# Altium schematic symbol library crystal oscillators.SchLib: 2 symbols
Pins are listed as number, name and electrical type; pins without a type are passive.

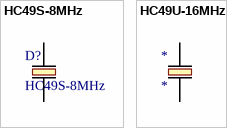
[diagram p0: symbols HC49S-8MHz to HC49U-16MHz]

## HC49S-8MHz
designator D?
Crystal oscillator 16MHz
footprint HC49U (Vertical mounting)
pins: 1, 2

## HC49U-16MHz
designator *
Crystal oscillator 16MHz
footprint HC49U (Vertical mounting)
pins: 1, 2